# Altium footprint library ZXMS6004FFQTA.PcbLib: 1 footprints
Each footprint in its own frame and in the unit in brackets; x right, y up, seen from the top. Pads: shape width x height; smd on the part's side, far side on the other; paste and mask are expansions set on the pad; w line width, h text height; cw(c..) or ccw(c..) is an arc to the next point about the centre after c.
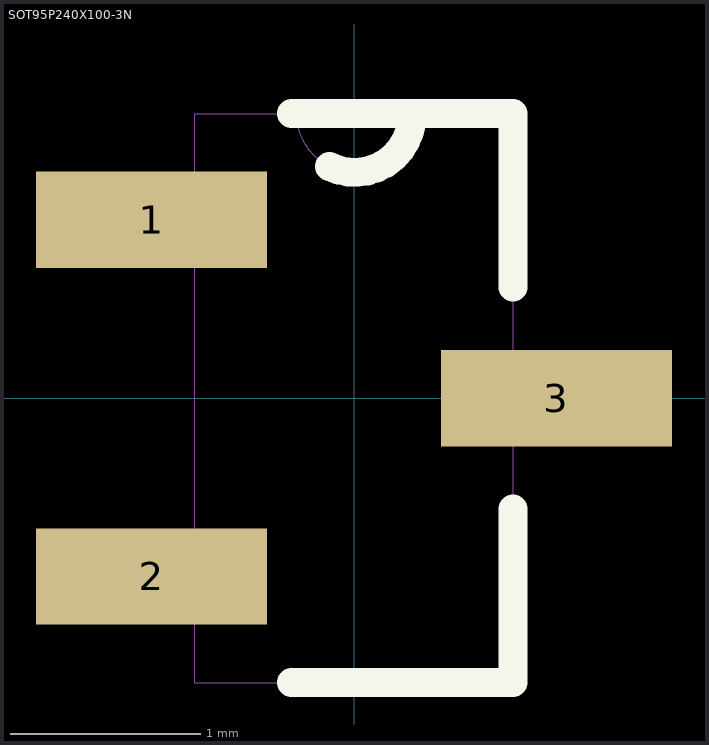
[diagram p0: the footprint, top view; thin cyan lines are the x and y axes]

## SOT95P240X100-3N [mil]
pads (3):
  rect 48x20 smd: 1(-42,37) 2(-42,-37) 3(42,0)
Top Overlay:
  lines w6: -13,-59 33,-59 33,-23 ; -13,59 12,59 33,59 33,23 ; -5.08,48.04 ccw(c0.13,58.71) 12,58.92
Mechanical 13:
  lines w0: -33,-46 -49,-46 -49,-29 -33,-29 ; -33,-46 -33,-29 ; -33,-46 -33,-59 33,-59 33,-9 ; -33,-29 -33,29 ; -33,29 -49,29 -49,46 -33,46 ; -33,29 -33,46 ; -33,46 -33,59 -12,59 ; -12,59 ccw(c0,59) 12,59 ; -12,59 12,59 ; 12,59 33,59 33,9 ; 33,-9 49,-9 49,9 33,9 ; 33,-9 33,9
3D body "step_temp.STEP": height 35.43, standoff 0, extent -47.24,-57.09 47.24,57.09